# EAGLE library part 74CBTLV3253PW118 (library SHC)
The 74CBTLV3253 provides a dual 1-of-4 high-speed multiplexer/demultiplexer with two common select inputs (S0, S1) and two output enable inputs (1OE, 2OE). The low ON resistance of the switch allows inputs to be connected to outputs without adding propagation delay or generating additional ground bounce noise. When pin nOE = LOW, one of the four switches is selected (low-impedance ON-state) with pins S0 and S1. When pin nOE = HIGH, all switches are in the high-impedance OFF-state, independent of pins S0 and S1. To ensure the high-impedance OFF-state during power-up or power-down, nOE should be tied to the VCC through a pull-up resistor. The minimum value of the resistor is determined by the current-sinking capability of the driver. Schmitt trigger action at control input makes the circuit tolerant to slower input rise and fall times across the entire VCC range from 2.3 V to 3.6 V. This device is fully specified for partial power-down applications using IOFF. The IOFF circuitry disables the output, preventing the damaging backflow current through the device when it is powered down.
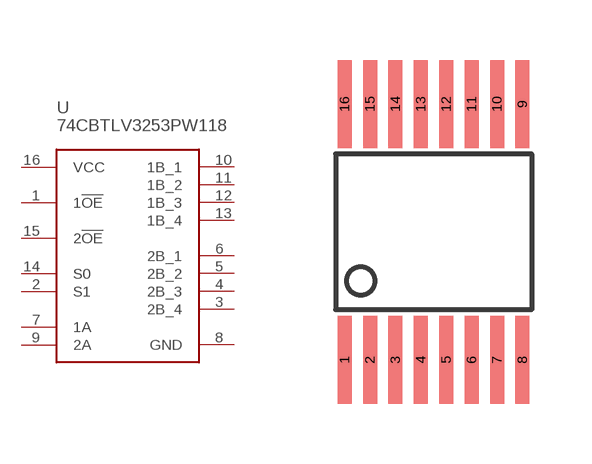
[diagram p12: symbol with the pads of SSOP-16; footprint SSOP-16]

Designator prefix -

## 74CBTLV3253PW118  [SSOP-16]
1  1!OE
2  S1
3  2B_4
4  2B_3
5  2B_2
6  2B_1
7  1A
8  GND
9  2A
10  1B_1
11  1B_2
12  1B_3
13  1B_4
14  S0
15  2!OE
16  VCC

## Footprint SSOP-16 (pad centres in mm)
smd 0.35 x 2.2: 1 -2.223,-3.2; 2 -1.587,-3.2; 3 -0.953,-3.2; 4 -0.318,-3.2; 5 0.318,-3.2; 6 0.953,-3.2; 7 1.587,-3.2; 8 2.223,-3.2; 9 2.223,3.2; 10 1.587,3.2; 11 0.953,3.2; 12 0.318,3.2; 13 -0.318,3.2; 14 -0.953,3.2; 15 -1.587,3.2; 16 -2.223,3.2